# EAGLE library part MAX323 (library maxim)
ANALOG SWITCH
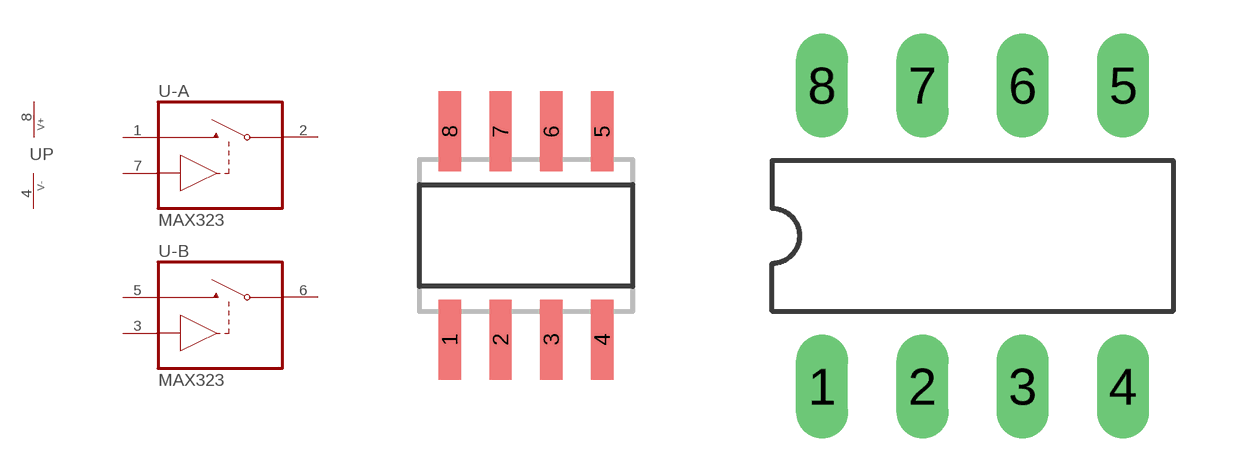
[diagram p393: symbol with the pads of SO08; footprints SO08, DIL08]

Designator prefix U; gates -A=MAX45XX-NO -B=MAX45XX-NO P=PWR+-

## MAX323CSA (P1I: o)  [SO08]
1  -A:NO  pas
2  -A:COM  pas
3  -B:IN  in
4  P:V-  pwr
5  -B:NO  pas
6  -B:COM  pas
7  -A:IN  in
8  P:V+  pwr

## MAX323CPA (P1I: o)  [DIL08]
Pads as for SO08

## Footprint SO08 (pad centres in mm)
SMALL OUTLINE INTEGRATED CIRCUIT body 3.9 mm/JEDEC MS-012AA
smd 0.56 x 2: 1 -1.905,-2.6; 2 -0.635,-2.6; 3 0.635,-2.6; 4 1.905,-2.6; 5 1.905,2.6; 6 0.635,2.6; 7 -0.635,2.6; 8 -1.905,2.6

## Footprint DIL08 (pad centres in mm)
Dual In Line Package
drill 0.813 long: 1 -3.81,-3.81; 2 -1.27,-3.81; 3 1.27,-3.81; 4 3.81,-3.81; 5 3.81,3.81; 6 1.27,3.81; 7 -1.27,3.81; 8 -3.81,3.81